# Altium footprint library DcDc.PcbLib: 6 footprints
Each footprint in its own frame and in the unit in brackets; x right, y up, seen from the top. Pads: shape width x height; smd on the part's side, far side on the other; paste and mask are expansions set on the pad; w line width, h text height; cw(c..) or ccw(c..) is an arc to the next point about the centre after c.
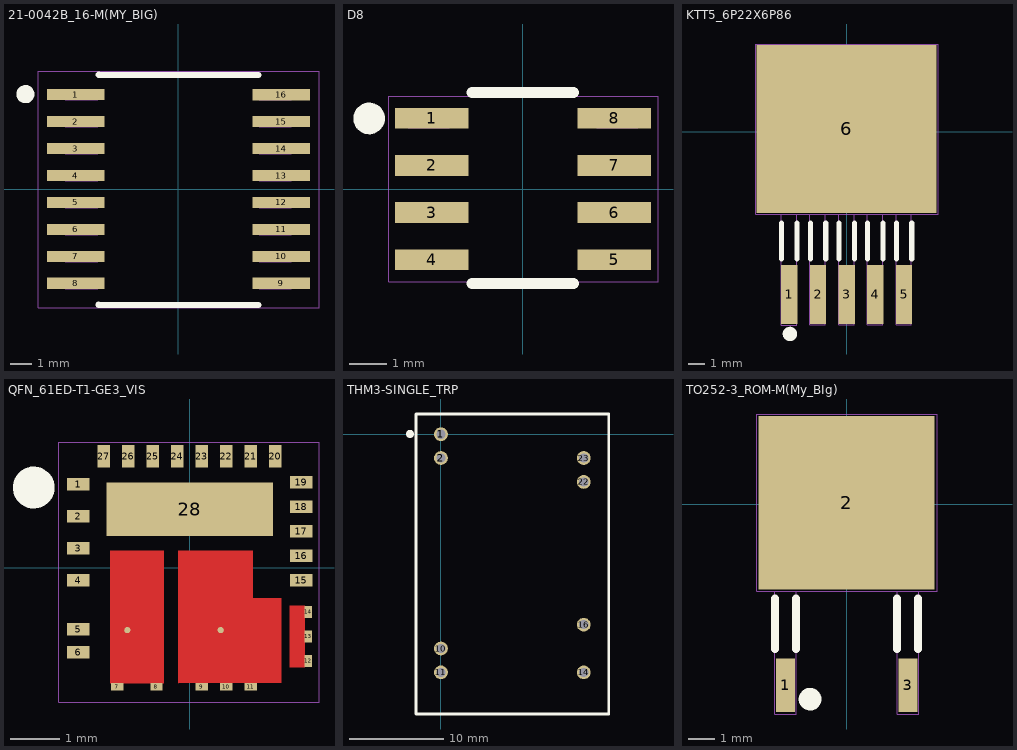
[diagram p0: the footprints below, top view; thin cyan lines are the x and y axes]

## 21-0042B_16-M(MY_BIG) [mil]
pads (16):
  rect 106.3x20.98 smd paste+0 mask+0: 1(-190.5,175)
  rect 106.3x21 smd paste+0 mask+0: 2(-190.5,125) 3(-190.5,75) 4(-190.5,25) 5(-190.5,-25) 6(-190.5,-75) 7(-190.5,-125) 8(-190.5,-175) 9(190.5,-175) 10(190.5,-125) 11(190.5,-75) 12(190.5,-25) 13(190.5,25) 14(190.5,75) 15(190.5,125) 16(190.5,175)
Top Overlay:
  circle w10: c-283.71,175.82 r11.81
  rectangle: -294.45,167.1 -272.23,185.81
  lines w11.81: -148.07,-214.62 148.29,-215.04 ; -147.76,211.54 147.76,211.32
  text ".Designator" at 274.74,218.23 h31.5
Top Component Outline:
  lines w1: -259.8,-220.04 -259.8,218.44 260.54,218.44 260.54,-220.04 -259.8,-220.04
Mechanical 13:
  lines w1: -209.5,-184.5 -209.5,-165.5 -149.5,-165.5 -149.5,-184.5 -209.5,-184.5 ; -209.5,-134.5 -209.5,-115.5 -149.5,-115.5 -149.5,-134.5 -209.5,-134.5 ; -209.5,-84.5 -209.5,-65.5 -149.5,-65.5 -149.5,-84.5 -209.5,-84.5 ; -209.5,-34.5 -209.5,-15.5 -149.5,-15.5 -149.5,-34.5 -209.5,-34.5 ; -209.5,15.5 -209.5,34.5 -149.5,34.5 -149.5,15.5 -209.5,15.5 ; -209.5,65.5 -209.5,84.5 -149.5,84.5 -149.5,65.5 -209.5,65.5 ; -209.5,115.5 -209.5,134.5 -149.5,134.5 -149.5,115.5 -209.5,115.5 ; -209.5,165.5 -209.5,184.5 -149.5,184.5 -149.5,165.5 -209.5,165.5 ; 149.5,-184.5 149.5,-165.5 209.5,-165.5 209.5,-184.5 149.5,-184.5 ; 149.5,-134.5 149.5,-115.5 209.5,-115.5 209.5,-134.5 149.5,-134.5 ; 149.5,-84.5 149.5,-65.5 209.5,-65.5 209.5,-84.5 149.5,-84.5 ; 149.5,-34.5 149.5,-15.5 209.5,-15.5 209.5,-34.5 149.5,-34.5 ; 149.5,15.5 149.5,34.5 209.5,34.5 209.5,15.5 149.5,15.5 ; 149.5,65.5 149.5,84.5 209.5,84.5 209.5,65.5 149.5,65.5 ; 149.5,115.5 149.5,134.5 209.5,134.5 209.5,115.5 149.5,115.5 ; 149.5,165.5 149.5,184.5 209.5,184.5 209.5,165.5 149.5,165.5
3D body "21-0042B_16.step": height 104.09, standoff 0, extent -212.89,-208.2 206.08,204.8

## D8 [mil]
pads (8):
  rect 78x22 smd: 1(-97,75) 2(-97,25) 3(-97,-25) 4(-97,-75) 5(97,-75) 6(97,-25) 7(97,25) 8(97,75)
Top Overlay:
  circle w10: c-163.38,74.94 r11.81
  rectangle: -174.01,64.95 -153.81,85.25
  lines w11.81: -54.32,-100.45 53.84,-100.45 ; -54.32,102.58 53.84,102.58
  text ".Designator" at 155.04,102.47 h31.5
Top Component Outline:
  lines w1: 143.4,-98.5 143.4,98.5
Mechanical 13:
  lines w1: 143.4,-98.5 -142.44,-98.5 -142.44,98.5 143.4,98.5 ; -122,-85 -78.5,-85 -78.5,-65 -122,-65 -122,-85 ; -122,-35 -78.5,-35 -78.5,-15 -122,-15 -122,-35 ; -122,15 -78.5,15 -78.5,35 -122,35 -122,15 ; -122,65 -78.5,65 -78.5,85 -122,85 -122,65 ; 78.5,-85 122,-85 122,-65 78.5,-65 78.5,-85 ; 78.5,-35 122,-35 122,-15 78.5,-15 78.5,-35 ; 78.5,15 122,15 122,35 78.5,35 78.5,15 ; 78.5,65 122,65 122,85 78.5,85 78.5,65
3D body "D0008A.stp": height 64, standoff 0, extent -113.02,-95.75 124.09,97.25

## KTT5_6P22X6P86 [mil]
pads (6):
  rect 38x138 smd: 1(-133.86,-380) 2(-66.93,-380) 3(0,-380) 4(66.93,-380) 5(133.86,-380)
  rect 420x392 smd: 6(0,6)
Top Overlay:
  circle w10: c-132.56,-472.29 r11.81
  rectangle: -141.7,-483.66 -124.16,-463.15
  lines w11.81: -151.86,-297 -151.86,-214 ; -115.86,-297 -115.86,-214 ; -84.93,-297 -84.93,-214 ; -48.93,-297 -48.93,-214 ; -18,-297 -18,-214 ; 18,-297 18,-214 ; 48.93,-297 48.93,-214 ; 84.93,-297 84.93,-214 ; 115.86,-297 115.86,-214 ; 151.86,-297 151.86,-214
  text ".Designator" at -209.41,215.42 h31.5
Top Component Outline:
  lines w1: -211.85,-192.76 213.24,-192.76 213.24,204.09 -211.85,204.09 -211.85,-192.76 ; -152.6,-451.67 -152.6,-192.76 -116.6,-192.76 -116.6,-451.67 -152.6,-451.67 ; -85.67,-451.35 -49.67,-451.35 -49.67,-192.76 -85.67,-192.76 -85.67,-451.35 ; -18.74,-450.71 -18.74,-192.76 17.26,-192.76 17.26,-450.71 -18.74,-450.71 ; 48.18,-450.6 48.18,-192.76 84.18,-192.76 84.18,-450.6 48.18,-450.6 ; 115.11,-451.03 115.11,-192.76 151.11,-192.76 151.11,-451.03 115.11,-451.03
3D body: height 10, standoff 0, extent 0,0 10,10
3D body "KTT0005A.stp": height 175, standoff -5.91, extent -200,-401.21 200,200

## QFN_61ED-T1-GE3_VIS [mil]
pads (30):
  rect 18x10 smd paste-5 mask+0: 1(-89.57,67.01) 2(-89.57,41.42) 3(-89.57,15.83) 4(-89.57,-9.76) 5(-89.57,-49.13) 6(-89.57,-67.83) 15(89.57,-9.84) 16(89.57,9.84) 17(89.57,29.53) 18(89.57,49.21) 19(89.57,68.9)
  rect 10x6 smd: 7(-58.08,-95.5) 8(-26.58,-95.5) 9(9.85,-95.5) 10(29.54,-95.5) 11(49.23,-95.5)
  rect 6x10 smd: 12(95.5,-74.8) 13(95.5,-55.12) 14(95.5,-35.43)
  rect 10x18 smd paste-5 mask+0: 20(68.92,89.56) 21(49.23,89.56) 22(29.54,89.56) 23(9.85,89.56) 24(-9.85,89.56) 25(-29.54,89.56) 26(-49.23,89.56) 27(-68.92,89.56)
  rect 134x43 smd: 28(0.2,47.13)
  round 5 smd: 29(-50,-50) 30(25,-50)
Top Layer:
  region: 80.5,-79.8 80.5,-30.43 92.5,-30.43 92.5,-79.8
  region: -9,-92.5 -9,13.8 50.84,13.8 50.84,-24.35 73.67,-24.35 73.67,-92.46
  region: -63.83,-92.5 -63.83,13.8 -20.83,13.8 -20.83,-92.5
Top Overlay:
  circle w10: c-125.22,64.52 r11.81
  rectangle: -134.04,53.57 -117.89,73.24
  text ".Designator" at -111.4,-132.81 h31.5
Top Paste:
  region: -63.83,-92.5 -63.83,13.8 -20.83,13.8 -20.83,-92.5
  region: 80.5,-79.8 80.5,-30.43 92.5,-30.43 92.5,-79.8
  region: -9,-92.5 -9,13.8 50.84,13.8 50.84,-24.35 73.67,-24.35 73.67,-92.46
Top Solder:
  region: 80.5,-79.8 80.5,-30.43 92.5,-30.43 92.5,-79.8
  region: -9,13.8 50.84,13.8 50.84,-24.35 73.67,-24.35 73.67,-92.46 -9,-92.5
  region: -63.83,-92.5 -63.83,13.8 -20.83,13.8 -20.83,-92.5
Mechanical 13:
  lines w1: -105.13,-107.89 -105.13,101.09 103.96,101.09 103.96,-107.89 -105.13,-107.89

## THM3-SINGLE_TRP [mil]
pads (8):
  round 58 hole 38 mask+0: 1(0,0) 2(0,-100) 10(0,-900) 11(0,-1000) 14(600,-1000) 16(600,-800) 22(600,-200) 23(600,-100)
Top Overlay:
  circle w10: c-129.59,1.28 r11.81
  rectangle: -139.37,-8.93 -122.15,11.48
  lines w11.81: -105,-1175 -105,85 705,85 705,-1175 -105,-1175
  text ".Designator" at 747.66,63.25 h31.5
3D body "thm3wi_3d_drawing.stp": height 411.57, standoff -139.61, extent -99.6,-1170.99 699.61,80.98

## TO252-3_ROM-M(My_BIg) [mil]
pads (3):
  rect 28x79 smd paste+0 mask+0: 1(-90.55,-268) 3(90.55,-268)
  rect 260x257 smd paste+0 mask+0: 2(0,2)
Top Overlay:
  circle w10: c-54.11,-288.6 r11.81
  rectangle: -65.16,-298.49 -44.01,-280.1
  lines w11.81: -106.19,-214.26 -106.19,-139.36 ; -74.62,-214.26 -74.62,-139.36 ; 74.62,-214.26 74.62,-139.36 ; 105.24,-214.26 105.24,-139.36
  text ".Designator" at -137.23,142.93 h31.5
Top Component Outline:
  lines w0.98: -132.77,133.19 -132.77,-128.83 133.72,-128.83 ; 133.83,-128.83 133.83,132.87
  lines w1: -132.77,133.19 133.83,132.87 ; -106.3,-310.5 -74.41,-310.5 -74.41,-128.83 -106.3,-128.83 -106.3,-310.5 ; 75,-310.5 75,-128.83 106.3,-128.83 106.3,-310.5 75,-310.5
3D body "TO252-3_ROM.step": height 98.11, standoff -2.01, extent -127.99,-267.52 128,18.59